# EAGLE library part AP64352SP-13 (library AP64352SP-13)
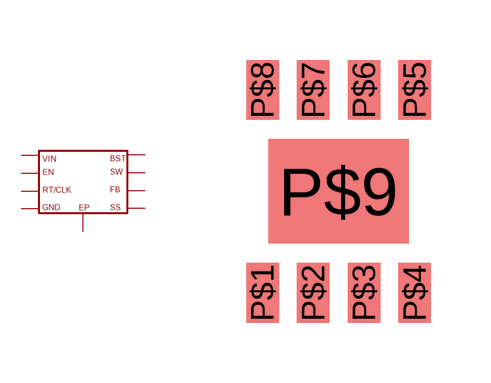
[diagram p0: symbol with the pads of AP64352SP-13; footprint AP64352SP-13]

Designator prefix -

## AP64352SP-13  [AP64352SP-13]
P$1  P$1
P$2  P$2
P$3  P$3
P$4  P$4
P$5  P$5
P$6  P$6
P$7  P$7
P$8  P$8
P$9  P$9

## Footprint AP64352SP-13 (pad centres in mm)
smd 0.813 x 1.499: P$1 -1.905,-2.54; P$2 -0.635,-2.54; P$3 0.635,-2.54; P$4 1.905,-2.54; P$5 1.905,2.54; P$6 0.635,2.54; P$7 -0.635,2.54; P$8 -1.905,2.54
smd 3.505 x 2.616: P$9 0,0